# Altium footprint library PCM5102.PcbLib: 4 footprints
Each footprint in its own frame and in the unit in brackets; x right, y up, seen from the top. Pads: shape width x height; smd on the part's side, far side on the other; paste and mask are expansions set on the pad; w line width, h text height; cw(c..) or ccw(c..) is an arc to the next point about the centre after c.
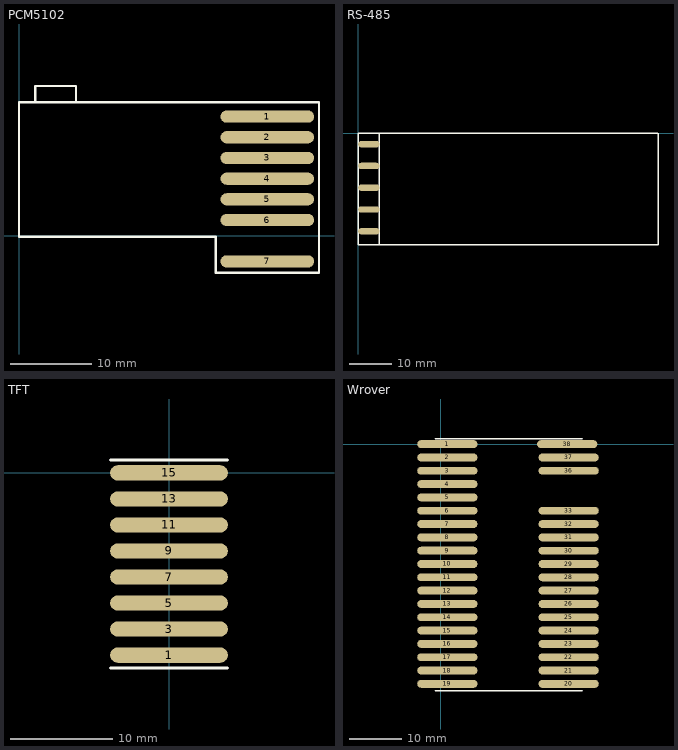
[diagram p0: the footprints below, top view; thin cyan lines are the x and y axes]

## PCM5102 [mm]
pads (7):
  oval 11.5x1.5 all layers, no hole: 1(30.48,14.605) 2(30.48,12.065) 3(30.48,9.525) 4(30.48,6.985) 5(30.48,4.445) 6(30.48,1.905) 7(30.48,-3.175)
Top Overlay:
  lines w0.3: 1.98,16.365 1.98,18.365 6.98,18.365 6.98,16.365 ; -0.02,-0.135 24.13,-0.135 24.13,-4.572 31.98,-4.572 36.83,-4.572 36.83,16.365 -0.02,16.365 -0.02,-0.135

## RS-485 [mm]
pads (5):
  oval 5x1.5 all layers, no hole: 1(2.54,-2.54) 2(2.54,-7.62) 3(2.54,-12.7) 4(2.54,-17.78) 5(2.54,-22.86)
Top Overlay:
  lines w0.3: 5,-26 5,0 ; 5,-26 70,-26 70,0 5,0 ; 5,-26 0,-26 0,0 5,0

## TFT [mm]
pads (8):
  oval 11.5x1.5 all layers, no hole: 1(0,-17.78) 3(0,-15.24) 5(0,-12.7) 7(0,-10.16) 9(0,-7.62) 11(0,-5.08) 13(0,-2.54) 15(0,0)
Top Overlay:
  lines w0.3: -5.715,-19.05 5.715,-19.05 ; -5.715,1.27 5.715,1.27

## Wrover [mm]
pads (36):
  oval 11.5x1.5 all layers, no hole: 1(1.27,0) 2(1.27,-2.54) 3(1.27,-5.08) 4(1.27,-7.62) 5(1.27,-10.16) 6(1.27,-12.7) 7(1.27,-15.24) 8(1.27,-17.78) 9(1.27,-20.32) 10(1.27,-22.86) 11(1.27,-25.4) 12(1.27,-27.94) 13(1.27,-30.48) 14(1.27,-33.02) 15(1.27,-35.56) 16(1.27,-38.1) 17(1.27,-40.64) 18(1.27,-43.18) 19(1.27,-45.72) 20(24.399,-45.725) 21(24.399,-43.185) 22(24.399,-40.645) 23(24.399,-38.105) 24(24.399,-35.565) 25(24.399,-33.025) 26(24.399,-30.485) 27(24.399,-27.945) 28(24.399,-25.405) 29(24.399,-22.865) 30(24.399,-20.325) 31(24.399,-17.785) 32(24.399,-15.245) 33(24.399,-12.705) 36(24.399,-5.085) 37(24.399,-2.545) 38(24.13,0)
Top Overlay:
  lines w0.3: -1,-47 27,-47 ; -1,1 27,1